# Altium schematic symbol library Controller-RK3562.SCHLIB: 538 symbols (part 5 of 5)
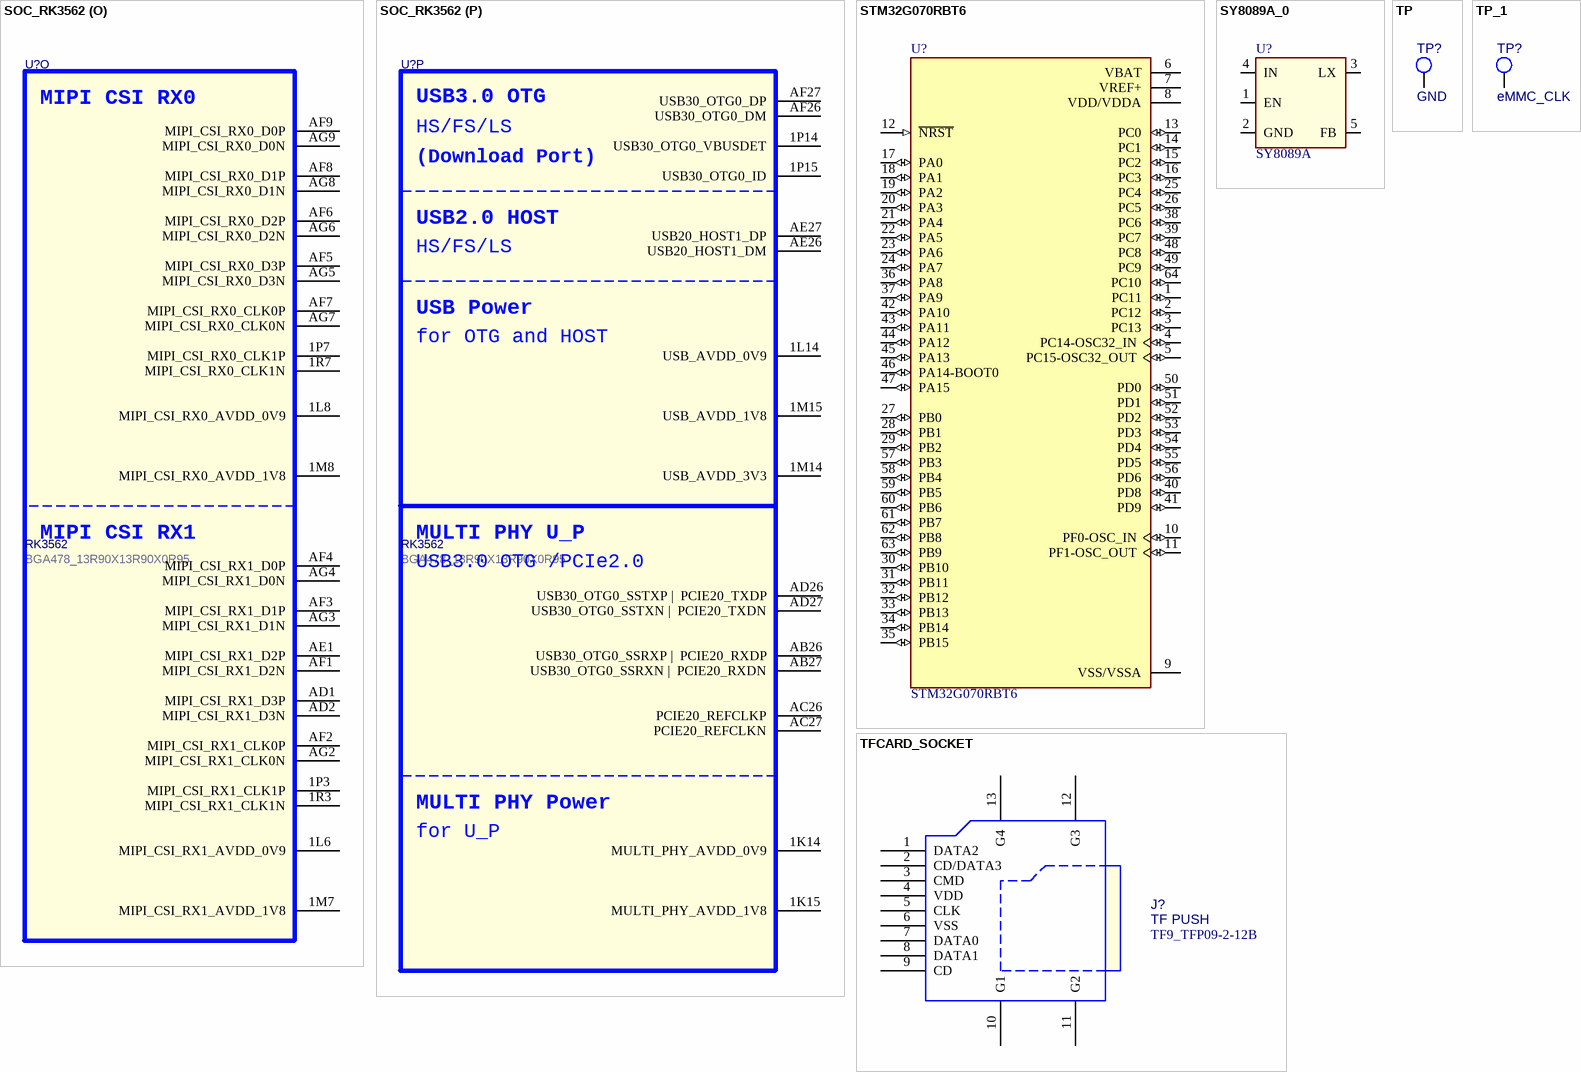
[diagram p24: symbols SOC_RK3562 to TP_1]

## SOC_RK3562
designator U?, comment RK3562  PCB Footprint: BGA478_13R90X13R90X0R95
ROCKCHIP SOC; Part Reference: U1000; Manufacturer: Rockchip (瑞芯微); SPLIT_INST: TRUE; SWAP_INFO: (S1+S2+S3+S4+S5+S6+S7+S8+S9+S10+S11+S12+S13+S14+S15+S16); Priority: A; RK PN: 906000425; Value: RK3562; Created by: JJJ; Manufacturer PN: RK3562; Part Type: SOC; ClassName: RK
footprint BGA478_13R90X13R90X0R95
part A pins: 1E12 VDD_GPU_1, 1F11 VDD_GPU_2, 1F12 VDD_GPU_3, 1F13 VDD_GPU_4, 1G3 VDD_NPU_1, 1G4 VDD_NPU_2, 1G5 VDD_NPU_3, 1G8 VDD_CPU_1, 1G10 VDD_LOGIC_1, 1G11 VDD_GPU_5, 1G12 VDD_GPU_6, 1H3 VDD_NPU_4, 1H4 VDD_NPU_5, 1H6 VDD_CPU_2, 1H7 VDD_CPU_3, 1H8 VDD_CPU_4, 1H10 VDD_LOGIC_2, 1H11 VDD_LOGIC_MEM, 1J6 VDD_CPU_5, 1J7 VDD_CPU_6, 1J10 VDD_LOGIC_3, 1J11 VDD_LOGIC_4, 1J12 VDD_LOGIC_5, 1K10 VDD_LOGIC_6
part B pins: 1L7 AVSS1_1L7, 1L9 AVSS1_1L9, 1L15 AVSS2_1L15, 1M6 AVSS1_1M6, 1N5 AVSS1_1N5, 1N6 AVSS1_1N6, 1N7 AVSS1_1N7, 1N8 AVSS1_1N8, 1N10 AVSS1_1N10, 1N14 AVSS2_1N14, 1N15 AVSS2_1N15, 1P1 AVSS1_1P1, 1P2 AVSS1_1P2, 1P4 AVSS1_1P4, 1P5 AVSS1_1P5, 1P6 AVSS1_1P6, 1P8 AVSS1_1P8, 1P9 AVSS1_1P9, 1P10 AVSS1_1P10, 1R1 AVSS1_1R1, 1R2 AVSS1_1R2, 1R4 AVSS1_1R4, 1R5 AVSS1_1R5, 1R6 AVSS1_1R6, 1R8 AVSS1_1R8, 1R9 AVSS1_1R9, 1R10 AVSS1_1R10, AA26 AVSS2_AA26, AB25 AVSS2_AB25, AC3 AVSS1_AC3, AD3 AVSS1_AD3, AD25 AVSS2_AD25, AE2 AVSS1_AE2, AE3 AVSS1_AE3, AE4 AVSS1_AE4, AE5 AVSS1_AE5, AE6 AVSS1_AE6, AE7 AVSS1_AE7, AE8 AVSS1_AE8, AE9 AVSS1_AE9, AE10 AVSS1_AE10, AE11 AVSS1_AE11, AE12 AVSS1_AE12, AE13 AVSS1_AE13, AE14 AVSS1_AE14, AG1 AVSS1_AG1, AG27 AVSS2_AG27
part C pins: 1A2 VSS_1A2, 1A4 VSS_1A4, 1A5 VSS_1A5, 1A11 VSS_1A11, 1A12 VSS_1A12, 1A14 VSS_1A14, 1B2 VSS_1B2, 1B4 VSS_1B4, 1B5 VSS_1B5, 1B9 VSS_1B9, 1B12 VSS_1B12, 1B14 VSS_1B14, 1C1 VSS_1C1, 1C2 VSS_1C2, 1C3 VSS_1C3, 1C4 VSS_1C4, 1C5 VSS_1C5, 1C6 VSS_1C6, 1C7 VSS_1C7, 1C10 VSS_1C10, 1C11 VSS_1C11, 1C12 VSS_1C12, 1C13 VSS_1C13, 1C14 VSS_1C14, 1C15 VSS_1C15, 1D1 VSS_1D1, 1D2 VSS_1D2, 1D3 VSS_1D3, 1D7 VSS_1D7, 1D8 VSS_1D8, 1D9 VSS_1D9, 1D10 VSS_1D10, 1D12 VSS_1D12, 1D13 VSS_1D13, 1D14 VSS_1D14, 1D15 VSS_1D15, 1E2 VSS_1E2, 1E11 VSS_1E11, 1E13 VSS_1E13, 1F3 VSS_1F3, 1F4 VSS_1F4, 1F5 VSS_1F5, 1F7 VSS_1F7, 1F9 VSS_1F9, 1F10 VSS_1F10, 1F15 VSS_1F15, 1G2 VSS_1G2, 1G6 VSS_1G6, 1G7 VSS_1G7, 1G9 VSS_1G9, 1G13 VSS_1G13, 1G14 VSS_1G14, 1H2 VSS_1H2, 1H5 VSS_1H5, 1H9 VSS_1H9, 1H12 VSS_1H12, 1H13 VSS_1H13, 1J3 VSS_1J3, 1J4 VSS_1J4, 1J13 VSS_1J13
part D pins: 1J5 VSS_1J5, 1J8 VSS_1J8, 1J9 VSS_1J9, 1K4 VSS_1K4, 1K5 VSS_1K5, 1K6 VSS_1K6, 1K7 VSS_1K7, 1K8 VSS_1K8, 1K9 VSS_1K9, 1K11 VSS_1K11, 1K12 VSS_1K12, 1K13 VSS_1K13, 1L4 VSS_1L4, 1L10 VSS_1L10, 1M3 VSS_1M3, 1M5 VSS_1M5, 1N1 VSS_1N1, 1N2 VSS_1N2, 1N3 VSS_1N3, 1N4 VSS_1N4, 1N11 VSS_1N11, 1N12 VSS_1N12, 1P11 VSS_1P11, 1P13 VSS_1P13, 1R12 VSS_1R12, 1R14 VSS_1R14, A1 VSS_A1, A12 VSS_A12, A16 VSS_A16, A27 VSS_A27, AA27 VSS_AA27, AE21 VSS_AE21, AE25 VSS_AE25, AF24 VSS_AF24, AG15 VSS_AG15, AG26 VSS_AG26, B14 VSS_B14, C3 VSS_C3, C4 VSS_C4, C7 VSS_C7, C9 VSS_C9, C13 VSS_C13, C14 VSS_C14, C15 VSS_C15, C19 VSS_C19, C21 VSS_C21, C24 VSS_C24, C25 VSS_C25, D2 VSS_D2, E3 VSS_E3, F3 VSS_F3, G25 VSS_G25, G27 VSS_G27, J3 VSS_J3, L25 VSS_L25, M27 VSS_M27, P26 VSS_P26, U3 VSS_U3
part E pins: 1A1 DDR_DQS1P_A |  DDR4_DQSU_P_A |  LPDDR4_DQS1P_A |  DDR3_DQS1P |  LPDDR3_DQS1P, 1A3 DDR_DQS0P_A |  DDR4_DQSL_P_A |  LPDDR4_DQS0P_A |  DDR3_DQS0P |  LPDDR3_DQS3P, 1A6 --          |  DDR3_BA0    |  LPDDR4_A3_A      |  DDR4_A12      |  AC12, 1A7 --          |  DDR3_RASN   |  LPDDR4_A5_A      |  DDR4_A16_RASN |  AC16, 1A8 --          |  DDR3_A11    |  LPDDR4_A5_B      |  DDR4_A5       |   AC5, 1A9 --          |  DDR3_A12    |  LPDDR4_A4_B      |  DDR4_BA1      |  AC19, 1A10 --          |  DDR3_BA1    |  LPDDR4_A3_B      |  DDR4_A4       |   AC4, 1A13 DDR_DQS0P_B |  DDR4_DQSU_P_B |  LPDDR4_DQS0P_B |  DDR3_DQS2P |  LPDDR3_DQS2P, 1A15 DDR_DQS1P_B |  DDR4_DQSL_P_B |  LPDDR4_DQS1P_B |  DDR3_DQS3P |  LPDDR3_DQS0P, 1B1 DDR_DQS1N_A |  DDR4_DQSU_N_A |  LPDDR4_DQS1N_A |  DDR3_DQS1N |  LPDDR3_DQS1N, 1B3 DDR_DQS0N_A |  DDR4_DQSL_N_A |  LPDDR4_DQS0N_A |  DDR3_DQS0N |  LPDDR3_DQS3N, 1B6 --          |  DDR3_A2     |  --               |  DDR4_A1       |   AC1, 1B7 --          |  DDR3_BA2    |  LPDDR4_ODT1_CA_A |  DDR4_BG1      |  AC21, 1B8 --          |  DDR3_A15    |  LPDDR4_A4_A      |  DDR4_A14_WEN  |  AC14, 1B10 --          |  DDR3_WEN    |  LPDDR4_ODT1_CA_B |  DDR4_BG0      |  AC20, 1B11 --          |  DDR3_RESETN |  LPDDR4_RESETN    |  DDR4_RESETN   |  AC29, 1B13 DDR_DQS0N_B |  DDR4_DQSU_N_B |  LPDDR4_DQS0N_B |  DDR3_DQS2N |  LPDDR3_DQS2N, 1B15 DDR_DQS1N_B |  DDR4_DQSL_N_B |  LPDDR4_DQS1N_B |  DDR3_DQS3N |  LPDDR3_DQS0N, 1C9 DDR_VREFOUT, 1D4 DDR_RZQ, 1D6 DDR_VDDQ_3, 1D11 DDR_VDDQ_6, 1E3 DDR_VDDQ_1, 1E4 DDR_VDDQL_1, 1E5 DDR_VDDQ_2, 1E6 DDR_VDDQL_2, 1E7 DDR_VDDQ_4, 1E8 DDR_VDDQL_3, 1E9 DDR_VDDQ_5, 1E10 DDR_VDDQL_4, A2 DDR_DM1_A   |  DDR4_DMU_A    |  LPDDR4_DM1_A   |  DDR3_DM1   |  LPDDR3_DM1, A3 DDR_DQ14_A  |  DDR4_DQU2_A   |  LPDDR4_DQ14_A  |  DDR3_DQ11  |  LPDDR3_DQ11, A4 DDR_DQ12_A  |  DDR4_DQU0_A   |  LPDDR4_DQ12_A  |  DDR3_DQ13  |  LPDDR3_DQ12, A6 DDR_DQ6_A   |  DDR4_DQL7_A   |  LPDDR4_DQ6_A   |  DDR3_DQ7   |  LPDDR3_DQ25, A8 DDR_DQ2_A   |  DDR4_DQL0_A   |  LPDDR4_DQ2_A   |  DDR3_DQ2   |  LPDDR3_DQ31, A10 LPDDR3_A6   |  DDR3_A4     |  LPDDR4_A1_A      |  DDR4_A2       |   AC2, A13 LPDDR3_CLKP |  DDR3_CLKP   |  LPDDR4_CLKN_A    |  DDR4_CLK0P    |  AC23, A15 --          |  DDR3_A9     |  LPDDR4_CLKN_B    |  DDR4_A0       |   AC0, A18 LPDDR3_A1   |  DDR3_A14    |  LPDDR4_A1_B      |  DDR4_A6       |   AC6, A20 DDR_DQ2_B   |  DDR4_DQU1_B   |  LPDDR4_DQ2_B   |  DDR3_DQ22  |  LPDDR3_DQ16, A22 DDR_DQ7_B   |  DDR4_DQU6_B   |  LPDDR4_DQ7_B   |  DDR3_DQ17  |  LPDDR3_DQ22, A24 DDR_DQ12_B  |  DDR4_DQL5_B   |  LPDDR4_DQ12_B  |  DDR3_DQ25  |  LPDDR3_DQ3, A25 DDR_DQ14_B  |  DDR4_DQL1_B   |  LPDDR4_DQ14_B  |  DDR3_DQ27  |  LPDDR3_DQ4, A26 DDR_DM1_B   |  DDR4_DML_B    |  LPDDR4_DM1_B   |  DDR3_DM3   |  LPDDR3_DM0, B1 DDR_DQ10_A  |  DDR4_DQU3_A   |  LPDDR4_DQ10_A  |  DDR3_DQ12  |  LPDDR3_DQ15, B2 DDR_DQ11_A  |  DDR4_DQU7_A   |  LPDDR4_DQ11_A  |  DDR3_DQ8   |  LPDDR3_DQ14, B3 DDR_DQ15_A  |  DDR4_DQU6_A   |  LPDDR4_DQ15_A  |  DDR3_DQ9   |  LPDDR3_DQ10, B4 DDR_DQ13_A  |  DDR4_DQU4_A   |  LPDDR4_DQ13_A  |  DDR3_DQ15  |  LPDDR3_DQ8, B5 DDR_DQ5_A   |  DDR4_DQL1_A   |  LPDDR4_DQ5_A   |  DDR3_DQ3   |  LPDDR3_DQ28, B6 DDR_DQ0_A   |  DDR4_DQL6_A   |  LPDDR4_DQ0_A   |  DDR3_DQ0   |  LPDDR3_DQ30, B7 DDR_DM0_A   |  DDR4_DML_A    |  LPDDR4_DM0_A   |  DDR3_DM0   |  LPDDR3_DM3, B8 DDR_DQ1_A   |  DDR4_DQL2_A   |  LPDDR4_DQ1_A   |  DDR3_DQ4   |  LPDDR3_DQ26, B9 LPDDR3_A9   |  DDR3_A7     |  LPDDR4_ODT0_CA_A |  DDR4_A8       |   AC8, B10 LPDDR3_A8   |  DDR3_A6     |  LPDDR4_A0_A      |  DDR4_A11      |  AC11, B11 LPDDR3_ODT0 |  DDR3_ODT1   |  LPDDR4_CS0N_A    |  DDR4_A3       |   AC3, B12 --          |  DDR3_A3     |  LPDDR4_CKE1_A    |  DDR4_CS0N     |  AC25, B13 LPDDR3_CLKN |  DDR3_CLKN   |  LPDDR4_CLKP_A    |  DDR4_CLK0N    |  AC24, B15 --          |  DDR3_A13    |  LPDDR4_CLKP_B    |  DDR4_A9       |   AC9, B16 LPDDR3_CS1N |  DDR3_CASN   |  LPDDR4_CKE1_B    |  DDR4_ACTN     |  AC17, B17 LPDDR3_A2   |  DDR3_CS0N   |  LPDDR4_CS0N_B    |  DDR4_ODT1     |  AC28, B18 LPDDR3_A0   |  DDR3_A5     |  LPDDR4_A0_B      |  DDR4_A7       |   AC7, B19 LPDDR3_ODT1 |  DDR3_A8     |  LPDDR4_ODT0_CA_B |  DDR4_A13      |  AC13, B20 DDR_DQ1_B   |  DDR4_DQU3_B   |  LPDDR4_DQ1_B   |  DDR3_DQ20  |  LPDDR3_DQ21, B21 DDR_DM0_B   |  DDR4_DMU_B    |  LPDDR4_DM0_B   |  DDR3_DM2   |  LPDDR3_DM2, B22 DDR_DQ0_B   |  DDR4_DQU7_B   |  LPDDR4_DQ0_B   |  DDR3_DQ16  |  LPDDR3_DQ17, B23 DDR_DQ5_B   |  DDR4_DQU4_B   |  LPDDR4_DQ5_B   |  DDR3_DQ23  |  LPDDR3_DQ19, B24 DDR_DQ13_B  |  DDR4_DQL7_B   |  LPDDR4_DQ13_B  |  DDR3_DQ31  |  LPDDR3_DQ5, B25 DDR_DQ15_B  |  DDR4_DQL3_B   |  LPDDR4_DQ15_B  |  DDR3_DQ29  |  LPDDR3_DQ7, B26 DDR_DQ11_B  |  DDR4_DQL6_B   |  LPDDR4_DQ11_B  |  DDR3_DQ24  |  LPDDR3_DQ6, B27 DDR_DQ10_B  |  DDR4_DQL2_B   |  LPDDR4_DQ10_B  |  DDR3_DQ28  |  LPDDR3_DQ2, C1 DDR_DQ9_A   |  DDR4_DQU5_A   |  LPDDR4_DQ9_A   |  DDR3_DQ10  |  LPDDR3_DQ13, C2 DDR_DQ8_A   |  DDR4_DQU1_A   |  LPDDR4_DQ8_A   |  DDR3_DQ14  |  LPDDR3_DQ9, C5 DDR_DQ4_A   |  DDR4_DQL5_A   |  LPDDR4_DQ4_A   |  DDR3_DQ1   |  LPDDR3_DQ24, C6 DDR_DQ7_A   |  DDR4_DQL3_A   |  LPDDR4_DQ7_A   |  DDR3_DQ5   |  LPDDR3_DQ29, C8 DDR_DQ3_A   |  DDR4_DQL4_A   |  LPDDR4_DQ3_A   |  DDR3_DQ6   |  LPDDR3_DQ27, C10 LPDDR3_A7   |  DDR3_A0     |  LPDDR4_A2_A      |  DDR4_A15_CASN |  AC15, C11 LPDDR3_A5   |  DDR3_CS1N   |  LPDDR4_CS1N_A    |  DDR4_CS1N     |  AC26, C12 LPDDR3_CKE  |  DDR3_CKE    |  LPDDR4_CKE0_A    |  DDR4_CKE0     |  AC22, C16 LPDDR3_CS0N |  DDR3_A10    |  LPDDR4_CKE0_B    |  DDR4_A10      |  AC10, C17 LPDDR3_A4   |  DDR3_ODT0   |  LPDDR4_CS1N_B    |  DDR4_ODT0     |  AC27, C18 LPDDR3_A3   |  DDR3_A1     |  LPDDR4_A2_B      |  DDR4_BA0      |  AC18, C20 DDR_DQ3_B   |  DDR4_DQU5_B   |  LPDDR4_DQ3_B   |  DDR3_DQ18  |  LPDDR3_DQ20, C22 DDR_DQ6_B   |  DDR4_DQU2_B   |  LPDDR4_DQ6_B   |  DDR3_DQ19  |  LPDDR3_DQ18, C23 DDR_DQ4_B   |  DDR4_DQU0_B   |  LPDDR4_DQ4_B   |  DDR3_DQ21  |  LPDDR3_DQ23, C26 DDR_DQ8_B   |  DDR4_DQL0_B   |  LPDDR4_DQ8_B   |  DDR3_DQ26  |  LPDDR3_DQ0, C27 DDR_DQ9_B   |  DDR4_DQL4_B   |  LPDDR4_DQ9_B   |  DDR3_DQ30  |  LPDDR3_DQ1
part F pins: 1G1 SYSPLL_AVDD_1V8, 1L11 PMUIO1, 1L12 PMUIO0, 1L13 PMUPLL_AVDD_1V8, 1M10 SYSPLL_AVDD_0V9, 1M11 PMU_VDD_LOGIC_0V9, 1M12 PMUPLL_AVSS, 1M13 PMUPLL_AVDD_0V9, 1N13 TVSS, 1P12 nPOR, 1R11 CAN1_RX_M1  |  NPU_AVS           |  PWM6_M0             |  UART2_RX_M0       |  GPIO0_C1_d, 1R13 --                |  TSADC_SHUT_ORG      |  TSADC_SHUT_M0     |  GPIO0_A1_z, 1R15 --                |  I2C4_SDA_M1         |  SDMMC0_DETN       |  GPIO0_A4_u, AE15 --          |  --                |  PCIE20_WAKEN_M0     |  I2C2_SDA_M0       |  GPIO0_B6_d, AE16 --          |  SPI0_CLK_M0       |  PWM0_M0             |  UART2_RTSN_M0     |  GPIO0_C3_d, AE17 --          |  --                |  --                  |  I2C1_SCL_M0       |  GPIO0_B3_d, AE18 --          |  SPI0_MISO_M0      |  PWM2_M0             |  UART6_RTSN_M0     |  GPIO0_C5_d, AE19 --          |  --                |  CAN0_RX_M2          |  UART6_RX_M0       |  GPIO0_C7_d, AE20 --          |  --                |  JTAG_CPU_MCU_TCK_M0 |  UART0_TX_M0       |  GPIO0_D1_u, AE22 PMU_DEBUG         |  I2C4_SCL_M1         |  SDMMC0_PWREN      |  GPIO0_A5_d, AE23 --                |  --                  |  I2C0_SDA          |  GPIO0_B2_d, AE24 --                |  --                  |  REF_CLK_OUT       |  GPIO0_A0_d, AF15 SPDIF_TX_M1 |  CPU_AVS           |  PWM4_M0             |  SPI0_CSN1_M0      |  GPIO0_B7_d, AF16 --          |  --                |  PCIE20_PERSTN_M0    |  I2C2_SCL_M0       |  GPIO0_B5_d, AF17 CAN1_TX_M1  |  GPU_AVS           |  PWM7_M0             |  UART2_TX_M0       |  GPIO0_C0_d, AF18 --          |  --                |  --                  |  I2C1_SDA_M0       |  GPIO0_B4_d, AF19 --          |  --                |  CAN0_TX_M2          |  UART6_TX_M0       |  GPIO0_C6_d, AF20 --          |  --                |  JTAG_CPU_MCU_TMS_M0 |  UART0_RX_M0       |  GPIO0_D0_u, AF21 PCIE20_BUTTONRSTN |  CLK0_32K_OUT        |  CLK_32K_IN        |  GPIO0_B0_d, AF22 --                |  --                  |  PWR_CTRL1         |  GPIO0_A3_u, AF23 --                |  TSADC_SHUT_M1       |  PWR_CTRL0         |  GPIO0_A2_d, AF25 OSC_SOC_XOUT, AG17 --          |  SPI0_CSN0_M0      |  PWM5_M0             |  UART2_CTSN_M0     |  GPIO0_C2_d, AG19 --          |  SPI0_MOSI_M0      |  PWM1_M0             |  UART6_CTSN_M0     |  GPIO0_C4_d, AG21 --                |  --                  |  PWM3_M0           |  GPIO0_A7_d, AG23 --                |  --                  |  I2C0_SCL          |  GPIO0_B1_d, AG24 --                |  --                  |  PCIE20_CLKREQN_M0 |  GPIO0_A6_d, AG25 OSC_SOC_XIN
part G pins: 1L1 CAN0_RX_M0        |  UART5_RTSN_M1 |  SPDIF_TX_M0 |  UART2_RX_M1   |  I2C3_SDA_M0  |  GPIO3_A1_d, 1L3 VCCIO1, 1M1 CAN0_TX_M0        |  UART5_CTSN_M1 |  PDM_SDI3_M0 |  UART2_TX_M1   |  I2C3_SCL_M0  |  GPIO3_A0_d, 1M2 PCIE20_PERSTN_M1  |  --            |  PDM_SDI1_M0 |  I2S0_SDI1_M0  |  I2S0_SDO3_M0 |  GPIO3_B0_d, J1 PCIE20_CLKREQN_M1 |  UART5_TX_M1   |  PDM_CLK0_M0 |  I2S0_SDI3_M0  |  I2S0_SDO1_M0 |  GPIO3_A6_d, J2 --                |  --            |  PDM_SDI0_M0 |  --            |  I2S0_SDI0_M0 |  GPIO3_B1_d, K2 --                |  --            |  PDM_CLK1_M0 |  UART2_CTSN_M1 |  I2S0_MCLK_M0 |  GPIO3_A2_d, K3 --                |  PWM9_M0       |  --          |  --            |  I2S0_SDO0_M0 |  GPIO3_A5_d, L1 --                |  PWM8_M0       |  --          |  --            |  I2S0_LRCK_M0 |  GPIO3_A4_d, L2 PCIE20_WAKEN_M1   |  UART5_RX_M1   |  PDM_SDI2_M0 |  I2S0_SDI2_M0  |  I2S0_SDO2_M0 |  GPIO3_A7_d, L3 --                |  --            |  --          |  UART2_RTSN_M1 |  I2S0_SCLK_M0 |  GPIO3_A3_d
part H pins: 1F14 VCCIO2, H25 FSPI_D2   |  EMMC_D2   |  GPIO1_A2_u, H26 --        |  EMMC_D6   |  GPIO1_A6_u, H27 --        |  EMMC_D7   |  GPIO1_A7_u, J25 FSPI_D0   |  EMMC_D0   |  GPIO1_A0_u, J26 FSPI_D1   |  EMMC_D1   |  GPIO1_A1_u, K25 --        |  EMMC_D5   |  GPIO1_A5_u, K26 --        |  EMMC_D4   |  GPIO1_A4_u, K27 FSPI_D3   |  EMMC_D3   |  GPIO1_A3_u, L26 FSPI_CSN1 |  EMMC_STRB |  GPIO1_B2_d, M25 FSPI_CLK  |  EMMC_CLK  |  GPIO1_B1_d, M26 FSPI_CSN0 |  EMMC_CMD  |  GPIO1_B0_u
part I pins: 1G15 VCCIO3, N25 DSM_AUD_RP |  PWM10_M0    |  SPI1_CSN1_M1 |  UART5_CTSN_M0 |  JTAG_CPU_MCU_TCK_M1 |  SDMMC0_D2  |  GPIO1_B5_u, N26 DSM_AUD_RN |  PWM11_M0    |  SPI1_CSN0_M1 |  UART5_RTSN_M0 |  JTAG_CPU_MCU_TMS_M1 |  SDMMC0_D3  |  GPIO1_B6_u, P25 CAN1_RX_M0 |  SPDIF_TX_M2 |  --           |  UART5_RX_M0   |  --                  |  SDMMC0_CMD |  GPIO1_B7_u, P27 CAN1_TX_M0 |  --          |  SPI1_CLK_M1  |  UART5_TX_M0   |  TEST_CLK_OUT        |  SDMMC0_CLK |  GPIO1_C0_d, R25 DSM_AUD_LP |  --          |  SPI1_MOSI_M1 |  UART7_RX_M1   |  UART0_RX_M1         |  SDMMC0_D0  |  GPIO1_B3_u, R26 DSM_AUD_LN |  --          |  SPI1_MISO_M1 |  UART7_TX_M1   |  UART0_TX_M1         |  SDMMC0_D1  |  GPIO1_B4_u
part J pins: 1H14 VCCIO4, 1H15 RMII_RXD1     |  PWM14_M1     |  SPI2_MOSI_M1 | UART4_RTSN_M1 |  RGMII_RXD1_M1      |  I2S2_SDO_M0   |  GPIO1_D7_d, 1J14 RMII_MDC      |  PWM2_M1      |  I2C5_SCL_M1  | --            |  RGMII_MDC_M1       |  SDMMC1_PWREN  |  GPIO1_C7_d, 1J15 RMII_RXER     |  PWM15_M1     |  SPI2_MISO_M1 | UART4_CTSN_M1 |  RGMII_RXER_M1      |  I2S2_SDI_M0   |  GPIO2_A0_d, AA25 RMII_TXEN     |  PWM6_M1      |  --           | I2S0_SDI2_M1  |  RGMII_TXEN_M1      |  UART1_RTSN_M0 |  GPIO1_D3_d, T25 --            |  PWM10_M1     |  --           | I2S0_SDO0_M1  |  RGMII_TXCLK_M1     |  SDMMC1_D2     |  GPIO1_C3_d, T26 --            |  PWM11_M1     |  --           | I2S0_LRCK_M1  |  RGMII_RXD2_M1      |  SDMMC1_D3     |  GPIO1_C4_d, T27 --            |  PWM0_M1      |  --           | I2S0_SCLK_M1  |  RGMII_RXD3_M1      |  SDMMC1_CMD    |  GPIO1_C5_d, U25 --            |  PWM1_M1      |  --           | I2S0_MCLK_M1  |  RGMII_RXCLK_M1     |  SDMMC1_CLK    |  GPIO1_C6_d, U26 --            |  PWM8_M1      |  --           | I2S0_SDI0_M1  |  RGMII_TXD2_M1      |  SDMMC1_D0     |  GPIO1_C1_d, V25 --            |  PWM9_M1      |  --           | I2S0_SDI1_M1  |  RGMII_TXD3_M1      |  SDMMC1_D1     |  GPIO1_C2_d, V26 RMII_MDIO     |  PWM3_M1      |  I2C5_SDA_M1  | --            |  RGMII_MDIO_M1      |  SDMMC1_DETN   |  GPIO1_D0_d, V27 RMII_RXDV_CRS |  --           |  SPI2_CSN0_M1 | UART4_TX_M1   |  RGMII_RXDV_M1      |  I2S2_LRCK_M0  |  GPIO1_D6_d, W25 --            |  CLK1_32K_OUT |  SPI2_CLK_M1  | I2S0_SDO3_M1  |  ETH_CLK_25M_OUT_M1 |  I2S2_MCLK_M0  |  GPIO2_A1_d, W26 RMII_CLK      |  --           |  SPI2_CSN1_M1 | UART4_RX_M1   |  RGMII_CLK_M1       |  I2S2_SCLK_M0  |  GPIO1_D5_d, Y25 RMII_TXD0     |  PWM4_M1      |  --           | I2S0_SDO1_M1  |  RGMII_TXD0_M1      |  UART1_RX_M0   |  GPIO1_D1_d, Y26 RMII_TXD1     |  PWM5_M1      |  --           | I2S0_SDO2_M1  |  RGMII_TXD1_M1      |  UART1_TX_M0   |  GPIO1_D2_d, Y27 RMII_RXD0     |  PWM7_M1      |  --           | I2S0_SDI3_M1  |  RGMII_RXD0_M1      |  UART1_CTSN_M0 |  GPIO1_D4_d
part K pins: 1K3 VCCIO5, D1 PWM13_M1   |  --          |  SPI0_CLK_M1  |  UART8_RTSN_M0 |  CAM_CLK3_OUT         |  I2S1_SDO0_M1 |  GPIO3_B5_d, D3 --         |  I2C5_SDA_M0 |  --           |  UART9_RX_M1   |  ISP_FLASH_TRIGOUT    |  --           |  GPIO3_C3_d, E1 --         |  I2C5_SCL_M0 |  --           |  UART9_TX_M1   |  ISP_PRELIGHT_TRIGOUT |  --           |  GPIO3_C2_d, E2 --         |  --          |  --           |  UART3_RTSN_M1 |  ISP_FLASH_TRIGIN     |  I2S1_SDI0_M1 |  GPIO3_C1_d, F2 PWM12_M1   |  --          |  SPI0_MOSI_M1 |  UART8_CTSN_M0 |  CAM_CLK2_OUT         |  I2S1_LRCK_M1 |  GPIO3_B4_d, G1 --         |  --          |  --           |  UART8_RX_M0   |  CAM_CLK1_OUT_M0      |  I2S1_SCLK_M1 |  GPIO3_B3_d, G2 CAN0_RX_M1 |  I2C4_SDA_M0 |  SPI0_CSN0_M1 |  UART3_TX_M1   |  I2S1_SDI2_M1         |  I2S1_SDO2_M1 |  GPIO3_B7_d, G3 CAN0_TX_M1 |  I2C4_SCL_M0 |  SPI0_CSN1_M1 |  UART3_CTSN_M1 |  I2S1_SDI3_M1         |  I2S1_SDO1_M1 |  GPIO3_B6_d, H2 --         |  --          |  SPI0_MISO_M1 |  UART3_RX_M1   |  I2S1_SDI1_M1         |  I2S1_SDO3_M1 |  GPIO3_C0_d, H3 --         |  --          |  --           |  UART8_TX_M0   |  CAM_CLK0_OUT_M0      |  I2S1_MCLK_M1 |  GPIO3_B2_d
part L pins: 1L5 VCCIO6_2, 1M4 VCCIO6_1, AA1 UART6_CTSN_M1 |  --              |  SPI1_MOSI_M0 |  --            |  RGMII_TXD0_M0      |  VO_LCDC_D22   |  GPIO4_A2_d, AA2 UART6_RTSN_M1 |  --              |  SPI1_MISO_M0 |  --            |  RGMII_TXD1_M0      |  VO_LCDC_D23   |  GPIO4_A3_d, AA3 --            |  PWM13_M0        |  --           |  --            |  RGMII_TXEN_M0      |  VO_LCDC_D0    |  GPIO4_A4_d, AB2 I2S2_SDO_M1   |  --              |  --           |  UART8_RX_M1   |  RGMII_TXD3_M0      |  VO_LCDC_D14   |  GPIO3_D5_d, AB3 I2S2_SDI_M1   |  --              |  --           |  UART8_TX_M1   |  RGMII_TXD2_M0      |  VO_LCDC_D13   |  GPIO3_D4_d, AC1 --            |  --              |  --           |  UART9_TX_M0   |  RGMII_MDC_M0       |  VO_LCDC_D2    |  GPIO4_B2_d, AC2 --            |  --              |  --           |  UART9_RX_M0   |  RGMII_MDIO_M0      |  VO_LCDC_D18   |  GPIO4_B3_d, M2 UART3_TX_M0   |  I2C1_SCL_M1     |  SPI2_CSN1_M0 |  UART9_CTSN_M0 |  I2S1_SDO1_M0       |  VO_LCDC_HSYNC |  GPIO4_B4_d, M3 UART3_RX_M0   |  I2C1_SDA_M1     |  SPI2_CSN0_M0 |  UART9_RTSN_M0 |  I2S1_SDO2_M0       |  VO_LCDC_VSYNC |  GPIO4_B5_d, N1 --            |  --              |  --           |  UART7_TX_M0   |  I2S1_MCLK_M0       |  VO_LCDC_D3    |  GPIO3_C4_d, N2 --            |  PWM14_M0        |  --           |  UART4_CTSN_M0 |  I2S1_SCLK_M0       |  VO_LCDC_D4    |  GPIO3_C5_d, N3 UART3_CTSN_M0 |  --              |  SPI2_CLK_M0  |  --            |  I2S1_SDO3_M0       |  VO_LCDC_DEN   |  GPIO4_B6_d, P2 --            |  --              |  --           |  UART7_RX_M0   |  I2S1_SDO0_M0       |  VO_LCDC_D6    |  GPIO3_C7_d, P3 --            |  PWM15_M0        |  --           |  UART4_RTSN_M0 |  I2S1_LRCK_M0       |  VO_LCDC_D5    |  GPIO3_C6_d, R1 UART3_RTSN_M0 |  --              |  --           |  UART4_RX_M0   |  I2S1_SDI1_M0       |  VO_LCDC_D10   |  GPIO3_D1_d, R2 --            |  I2C2_SCL_M1     |  SPI2_MISO_M0 |  UART7_CTSN_M0 |  I2S1_SDI2_M0       |  VO_LCDC_D11   |  GPIO3_D2_d, R3 --            |  --              |  --           |  UART4_TX_M0   |  I2S1_SDI0_M0       |  VO_LCDC_D7    |  GPIO3_D0_d, T2 I2S2_SCLK_M1  |  CAM_CLK0_OUT_M1 |  PDM_CLK1_M1  |  --            |  ETH_CLK_25M_OUT_M0 |  VO_LCDC_D17   |  GPIO4_B1_d, T3 --            |  I2C2_SDA_M1     |  SPI2_MOSI_M0 |  UART7_RTSN_M0 |  I2S1_SDI3_M0       |  VO_LCDC_D12   |  GPIO3_D3_d, U1 --            |  CAM_CLK1_OUT_M1 |  PDM_CLK0_M1  |  --            |  RGMII_CLK_M0       |  VO_LCDC_CLK   |  GPIO4_B7_d, U2 I2S2_LRCK_M1  |  PWM12_M0        |  --           |  --            |  RGMII_RXCLK_M0     |  VO_LCDC_D21   |  GPIO4_A1_d, V2 UART6_TX_M1   |  --              |  PDM_SDI0_M1  |  UART1_RTSN_M1 |  RGMII_RXDV_M0      |  VO_LCDC_D9    |  GPIO4_A7_d, V3 UART6_RX_M1   |  --              |  PDM_SDI1_M1  |  UART1_CTSN_M1 |  RGMII_RXER_M0      |  VO_LCDC_D16   |  GPIO4_B0_d, W1 --            |  I2C3_SDA_M1     |  PDM_SDI3_M1  |  UART1_RX_M1   |  RGMII_RXD1_M0      |  VO_LCDC_D8    |  GPIO4_A6_d, W2 --            |  --              |  SPI1_CSN0_M0 |  UART8_CTSN_M1 |  RGMII_RXD2_M0      |  VO_LCDC_D19   |  GPIO3_D7_d, W3 --            |  I2C3_SCL_M1     |  PDM_SDI2_M1  |  UART1_TX_M1   |  RGMII_RXD0_M0      |  VO_LCDC_D1    |  GPIO4_A5_d, Y2 I2S2_MCLK_M1  |  --              |  SPI1_CLK_M0  |  --            |  RGMII_TXCLK_M0     |  VO_LCDC_D15   |  GPIO3_D6_d, Y3 --            |  --              |  SPI1_CSN1_M0 |  UART8_RTSN_M1 |  RGMII_RXD3_M0      |  VO_LCDC_D20   |  GPIO4_A0_d
part M pins: 1E1 SARADC1_IN7, 1E14 SARADC0_AVDD_1V8, 1E15 OTP_VCC_1V8, 1F1 SARADC1_IN0, 1F2 SARADC1_IN2, 1H1 SARADC1_IN4, 1J1 SARADC1_IN1, 1J2 SARADC1_IN3, 1K1 SARADC1_IN6, 1K2 SARADC1_AVDD_1V8, 1L2 SARADC1_IN5, D25 SARADC0_IN4, D26 SARADC0_BOOT, E25 SARADC0_IN2, E26 SARADC0_IN5, E27 SARADC0_IN6, F25 SARADC0_IN7, F26 SARADC0_IN1, G26 SARADC0_IN3
part N pins: 1M9 MIPI_DSI_TX/LVDS_TX_AVDD_0V9, 1N9 MIPI_DSI_TX/LVDS_TX_AVDD_1V8, AF10 LVDS_TX_D3N |   MIPI_DSI_TX_D3N, AF11 LVDS_TX_D2P |   MIPI_DSI_TX_D2P, AF12 LVDS_TX_CLKN |  MIPI_DSI_TX_CLKN, AF13 LVDS_TX_D1P |   MIPI_DSI_TX_D1P, AF14 LVDS_TX_D0N |   MIPI_DSI_TX_D0N, AG10 LVDS_TX_D3P |   MIPI_DSI_TX_D3P, AG11 LVDS_TX_D2N |   MIPI_DSI_TX_D2N, AG12 LVDS_TX_CLKP |  MIPI_DSI_TX_CLKP, AG13 LVDS_TX_D1N |   MIPI_DSI_TX_D1N, AG14 LVDS_TX_D0P |   MIPI_DSI_TX_D0P
part O pins: 1L6 MIPI_CSI_RX1_AVDD_0V9, 1L8 MIPI_CSI_RX0_AVDD_0V9, 1M7 MIPI_CSI_RX1_AVDD_1V8, 1M8 MIPI_CSI_RX0_AVDD_1V8, 1P3 MIPI_CSI_RX1_CLK1P, 1P7 MIPI_CSI_RX0_CLK1P, 1R3 MIPI_CSI_RX1_CLK1N, 1R7 MIPI_CSI_RX0_CLK1N, AD1 MIPI_CSI_RX1_D3P, AD2 MIPI_CSI_RX1_D3N, AE1 MIPI_CSI_RX1_D2P, AF1 MIPI_CSI_RX1_D2N, AF2 MIPI_CSI_RX1_CLK0P, AF3 MIPI_CSI_RX1_D1P, AF4 MIPI_CSI_RX1_D0P, AF5 MIPI_CSI_RX0_D3P, AF6 MIPI_CSI_RX0_D2P, AF7 MIPI_CSI_RX0_CLK0P, AF8 MIPI_CSI_RX0_D1P, AF9 MIPI_CSI_RX0_D0P, AG2 MIPI_CSI_RX1_CLK0N, AG3 MIPI_CSI_RX1_D1N, AG4 MIPI_CSI_RX1_D0N, AG5 MIPI_CSI_RX0_D3N, AG6 MIPI_CSI_RX0_D2N, AG7 MIPI_CSI_RX0_CLK0N, AG8 MIPI_CSI_RX0_D1N, AG9 MIPI_CSI_RX0_D0N
part P pins: 1K14 MULTI_PHY_AVDD_0V9, 1K15 MULTI_PHY_AVDD_1V8, 1L14 USB_AVDD_0V9, 1M14 USB_AVDD_3V3, 1M15 USB_AVDD_1V8, 1P14 USB30_OTG0_VBUSDET, 1P15 USB30_OTG0_ID, AB26 USB30_OTG0_SSRXP |  PCIE20_RXDP, AB27 USB30_OTG0_SSRXN |  PCIE20_RXDN, AC26 PCIE20_REFCLKP, AC27 PCIE20_REFCLKN, AD26 USB30_OTG0_SSTXP |  PCIE20_TXDP, AD27 USB30_OTG0_SSTXN |  PCIE20_TXDN, AE26 USB20_HOST1_DM, AE27 USB20_HOST1_DP, AF26 USB30_OTG0_DM, AF27 USB30_OTG0_DP
part E text: DDR4; LPDDR4; DDR3; LPDDR3; Note: Sequences can not be swap. Note the CLK polarity.; VDDQ; VDDQL; DDR3L; 1.35V; 1.50V; 1.20V; 1.10V; LPDDR4X; 0.60V; Note: / Except DDR3\DDR4, other DQ sequences / can not be swap
part F text: OSC; PMUIO0 Domain; Operating Voltage=3.3V Only; PMU PLL; PMUIO1 Domain; Operating Voltage=1.8V/3.3V; SYS PLL; PMUIO0/1/OSC Domain Logic Power; Operating Voltage=0.9V
part G text: VCCIO1 Domain; Operating Voltage=1.8V/3.3V
part H text: VCCIO2 Domain; Operating Voltage=1.8V/3.3V
part I text: VCCIO3 Domain; Operating Voltage=1.8V/3.3V
part J text: VCCIO4 Domain; Operating Voltage=1.8V/3.3V
part K text: VCCIO5 Domain; Operating Voltage=1.8V/3.3V
part L text: VCCIO6 Domain; Operating Voltage=1.8V/3.3V
part M text: SARADC0; BOOT/; Recovery/; OTP; SARADC1
part N text: MIPI DSI TX/LVDS TX
part O text: MIPI CSI RX0; MIPI CSI RX1
part P text: USB3.0 OTG; HS/FS/LS; (Download Port); USB2.0 HOST; USB Power; for OTG and HOST; MULTI PHY U_P; USB3.0 OTG /PCIe2.0; MULTI PHY Power; for U_P

## STM32G070RBT6
designator U?
ManufacturingPartNumber: *; Manufacturer: *; SupplierPartNumber: *; Supplier: *; VoltageRate: *
footprint QFP50P1200X1200X160-64N
pins: 1 PC11 (io), 2 PC12 (io), 3 PC13 (io), 4 PC14-OSC32_IN (io), 5 PC15-OSC32_OUT (io), 6 VBAT (power), 7 VREF+ (power), 8 VDD/VDDA (power), 9 VSS/VSSA (power), 10 PF0-OSC_IN (io), 11 PF1-OSC_OUT (io), 12 ~{NRST} (in), 13 PC0 (io), 14 PC1 (io), 15 PC2 (io), 16 PC3 (io), 17 PA0 (io), 18 PA1 (io), 19 PA2 (io), 20 PA3 (io), 21 PA4 (io), 22 PA5 (io), 23 PA6 (io), 24 PA7 (io), 25 PC4 (io), 26 PC5 (io), 27 PB0 (io), 28 PB1 (io), 29 PB2 (io), 30 PB10 (io), 31 PB11 (io), 32 PB12 (io), 33 PB13 (io), 34 PB14 (io), 35 PB15 (io), 36 PA8 (io), 37 PA9 (io), 38 PC6 (io), 39 PC7 (io), 40 PD8 (io), 41 PD9 (io), 42 PA10 (io), 43 PA11 (io), 44 PA12 (io), 45 PA13 (io), 46 PA14-BOOT0 (io), 47 PA15 (io), 48 PC8 (io), 49 PC9 (io), 50 PD0 (io), 51 PD1 (io), 52 PD2 (io), 53 PD3 (io), 54 PD4 (io), 55 PD5 (io), 56 PD6 (io), 57 PB3 (io), 58 PB4 (io), 59 PB5 (io), 60 PB6 (io), 61 PB7 (io), 62 PB8 (io), 63 PB9 (io), 64 PC10 (io)

## SY8089A_0
designator U?, comment SY8089A
ManufacturingPartNumber: *; Manufacturer: *; SupplierPartNumber: *; Supplier: *; VoltageRate: *
footprint SOT5P95B160_300H130
pins: 1 EN, 2 GND, 3 LX, 4 IN, 5 FB

## TFCARD_SOCKET
designator J?, comment TF PUSH  PCB Footprint: TF9_TFP09-2-12B
通用TF卡座，全尺寸; Part Reference: J4200; Manufacturer: 旺科达; Value: TFP09-2-12B; Priority: A; RK PN: TFP09-2-12B; Part Type: CARD Jack; Manufacturer Part Number: TFP09-2-12B; Created by: JJJ
footprint TF-SMD_TF-PUSH
pins: 1 DATA2, 2 CD/DATA3, 3 CMD, 4 VDD, 5 CLK, 6 VSS, 7 DATA0, 8 DATA1, 9 CD, 10 G1, 11 G2, 12 G3, 13 G4

## TP
designator TP?, comment GND
Test Point 0.7mm; Part Reference: TP1401; PCB Footprint: TP_0R70; RK PN: TESTPOINT_0R7; Priority: A; Value: GND; Part Type: TP; Created by: JJJ; ClassName: RK
footprint TP_0R70
footprint TP_0R70
pins: 1

## TP_1
designator TP?, comment eMMC_CLK
Test Point 0.7mm; Part Reference: TP1402; PCB Footprint: TP_0R70; Priority: A; RK PN: TESTPOINT_0R7; Value: eMMC_CLK; Created by: JJJ; Part Type: TP; ClassName: RK
footprint TP_0R70
footprint TP_0R70
pins: 1